# EAGLE library part LM25011MY/NOPB (library rezzonics)
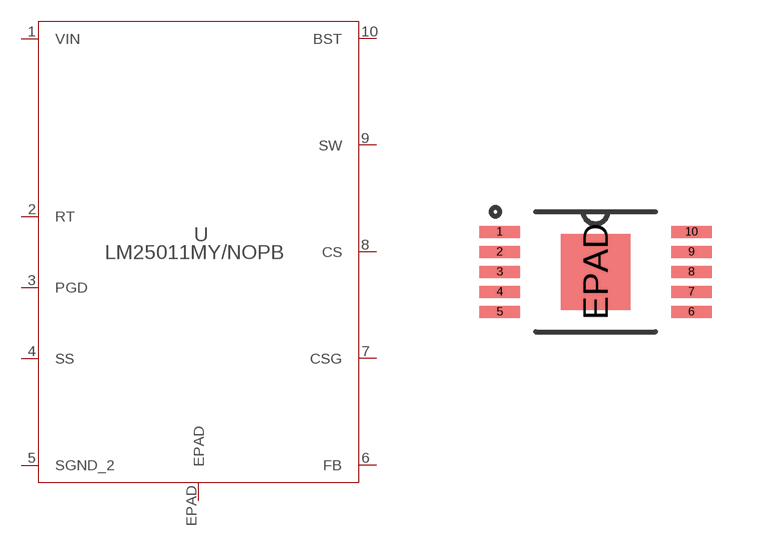
[diagram p1: symbol with the pads of MUC10A; footprint MUC10A]

Designator prefix U

## LM25011MY/NOPB (DATASHEETURL: http://www.ti.com/product/lm25011; FREQUENCY: 2000000.0; IMAX: 2.0; MANUFACTURER_NAME: Texas Instruments; MANUFACTURER_PART_NUMBER: LM25011MY/NOPB; MKTG_PACKAGE: NA; NSID: LM25011MY/NOPB; PACKAGE: NA; VENDOR: Texas Instruments)  [MUC10A]
1  VIN  pas
2  RT  pas
3  PGD  pas
4  SS  pas
5  SGND_2  pas
6  FB  pas
7  CSG  pas
8  CS  pas
9  SW  pas
10  BST  pas
EPAD  EPAD  pas

## Footprint MUC10A (pad centres in mm)
smd 1.02 x 0.3: 1 -2.4,1; 2 -2.4,0.5; 3 -2.4,0; 4 -2.4,-0.5; 5 -2.4,-1; 6 2.4,-1; 7 2.4,-0.5; 8 2.4,0; 9 2.4,0.5; 10 2.4,1
smd 1.73 x 1.9: EPAD 0,0